# Altium footprint library Components - 22.09.24 - 10.52.PcbLib: 1 footprints
Each footprint in its own frame and in the unit in brackets; x right, y up, seen from the top. Pads: shape width x height; smd on the part's side, far side on the other; paste and mask are expansions set on the pad; w line width, h text height; cw(c..) or ccw(c..) is an arc to the next point about the centre after c.
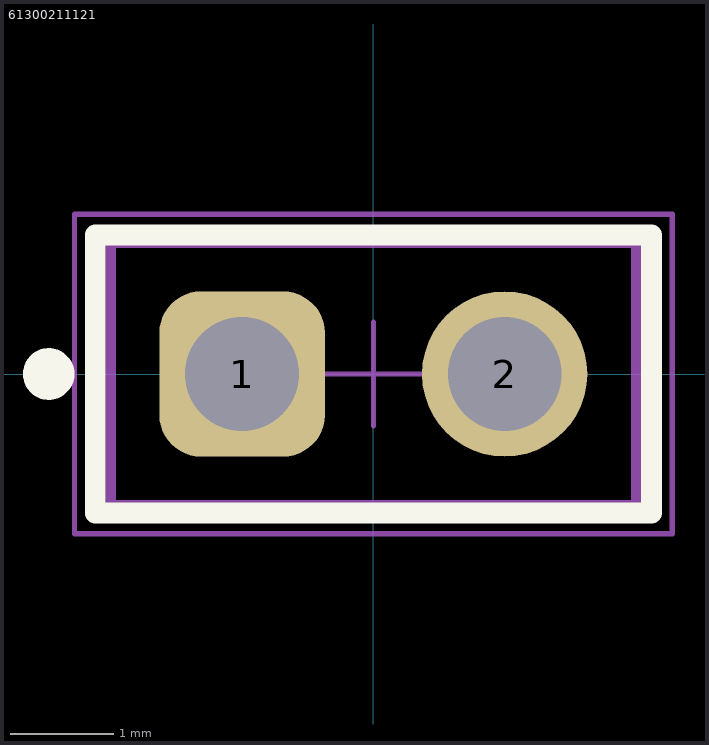
[diagram p0: the footprint, top view; thin cyan lines are the x and y axes]

## 61300211121 [mm] "Pin Header, pitch 2.54 mm, THT, Vertical, single row, 2p"
height 8.54
pads (2):
  rrect50% 1.6x1.6 hole 1.1: 1(-1.27,0)
  round 1.6 hole 1.1: 2(1.27,0)
Top Overlay:
  circle w0.25: c-3.14,0 r0.125
  lines w0.2: -2.69,-1.345 -2.69,1.345 2.69,1.345 2.69,-1.345 -2.69,-1.345
Top Designator:
  text ".Designator" at -7.498,-0.5 h1.5
Top Component Outline:
  lines w0.1: -2.54,-1.27 2.54,-1.27 2.54,1.27 -2.54,1.27 -2.54,-1.27
Top Courtyard:
  lines w0.05: -2.89,-1.545 2.89,-1.545 2.89,1.545 -2.89,1.545 -2.89,-1.545
Top Component Center:
  lines w0.05: -0.5,0 0.5,0 ; 0,-0.5 0,0.5
3D body "61300211121.stp": height 8.57, standoff -2.97, extent -2.54,-1.27 2.54,1.27